# EAGLE library part HR961160C (library electronic-labs)
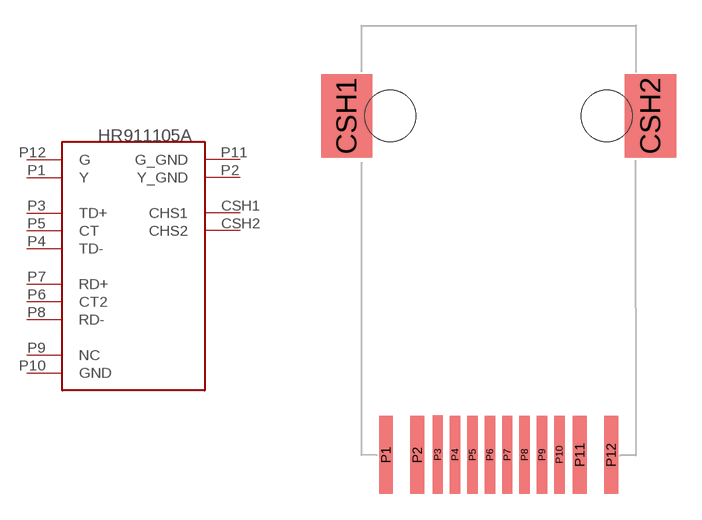
[diagram p14: symbol with the pads of HR961160C; footprint HR961160C]

Designator prefix X

## HR961160C  [HR961160C]
CSH1  CHS1
CSH2  CHS2
P1  Y
P2  Y_GND
P3  TD+
P4  TD-
P5  CT
P6  CT2
P7  RD+
P8  RD-
P9  NC
P10  GND
P11  G_GND
P12  G

## Footprint HR961160C (pad centres in mm)
smd 3 x 4.9: CSH1 -2.31,19.92; CSH2 15.53,19.92
smd 0.81 x 4.6: P1 0,0; P2 1.84,0; P11 11.38,0; P12 13.22,0
smd 0.61 x 4.6: P3 3.04,0.01; P4 4.06,0; P5 5.08,0; P6 6.1,0; P7 7.12,0; P8 8.14,0; P9 9.16,0; P10 10.18,0
hole 3 at 12.96,19.92
hole 3 at 0.26,19.92